# Altium integrated library EgitimPowerSupply.IntLib: 9 symbols
Pins are listed as number, name and electrical type; pins without a type are passive.

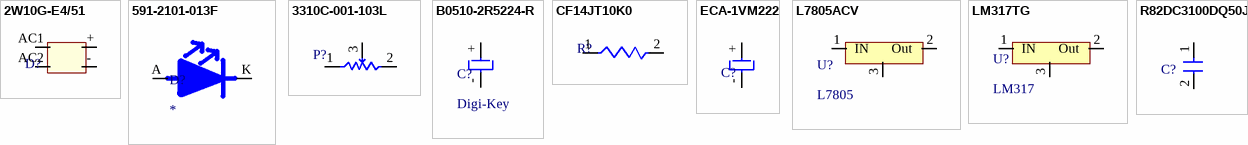
[diagram p0: symbols 2W10G-E4/51 to R82DC3100DQ50J]

## 2W10G-E4/51
designator D?, comment KoptuDiyot  (value not drawn)
RECTIFIER BRIDGE 2A 1000V WOG; Manufacturer: Vishay Semiconductor Diodes Division; Manufacturer Part Number: 2W10G-E4/51; Diode Type: Single Phase; Supplier 1: Digi-Key; RoHS: Request Inventory Verification; Category: Discrete Semiconductor Products; Stock 1: 0; Pricing 1: 1=0.69, 10=0.605, 25=0.536, 100=0.4668, 250=0.40632, 500=0.3458, 1000=0.27664, 2500=0.2507 (USD); Packaging: Bulk; Voltage - Peak Reverse (Max): 1000V; Current - DC Forward (If) (Max): 2A; Mounting Type: Through Hole; Package / Case: 4-Circular, WOG; Supplier Device Package: WOG; ComponentLink1URL: http://www.vishay.com/docs/88528/2w005g.pdf; ComponentLink1Description: http://www.vishay.com/docs/88528/2w005g.pdf
footprint 2W10 (KopruDiyot)
pins: +, -, AC1, AC2

## 591-2101-013F
designator D?
Manufacturer: Dialight; Manufacturer Part Number: 591-2101-013F; Color: Red; Wavelength - Peak: 660nm; Configuration: Single; Current: 20mA; Millicandela Rating: 38mcd; Lens Style/Size: Round with Domed Top, 3mm; Voltage Rating: 1.8V; Supplier 1: Digi-Key; RoHS: RoHS Compliant; Category: Optoelectronics; Stock 1: 2318; Pricing 1: 1=2.21, 10=1.768, 25=1.3504, 100=1.2275, 250=1.0802, 500=0.90836 (USD); Packaging: Digi-Reel®; Viewing Angle: -; Lens Type: -; Mounting Type: Surface Mount, Right Angle; ComponentLink1URL: http://www.dialight.com/Assets/Drawings/2D_Drawings_DrawingDetailedSpec/C17354.pdf; ComponentLink1Description: http://www.dialight.com/Assets/Drawings/2D_Drawings_DrawingDetailedSpec/C17354.pdf
footprint LED5MM (Led5mm)
pins: A, K

## 3310C-001-103L
designator P?, comment Pot  (value not drawn)
POT 10K OHM 9MM SQ RTANG PLAST; Manufacturer: Bourns Inc.; Manufacturer Part Number: 3310C-001-103L; Power (Watts): 0.25W, 1/4W; Tolerance: ±20%; Temperature Coefficient: ±1000ppm/°C; Number of Turns: Single; Rotation: 300°; Adjustment Type: Side Adjustment; Resistive Material: Conductive Plastic; Actuator Length: 0.500" (12.70mm); Actuator Type: Slotted Shaft; Actuator Diameter: 0.125" (3.18mm); Supplier 1: Digi-Key; RoHS: RoHS Compliant; Category: Potentiometers, Variable Resistors; Stock 1: 2537; Pricing 1: 1=2.64, 10=2.32, 25=2.08, 50=2, 100=1.92, 250=1.84, 500=1.52, 1000=1.44, 2500=1.24 (USD); Packaging: Bulk; Resistance (Ohms): 10k; Termination Style: PC Pin; Size - Body: Square - 0.375" x 0.375" Face x 0.375" H (9.53mm x 9.53mm x 9.53mm); Mounting Type: Through Hole; ComponentLink1URL: http://www.bourns.com/data/global/pdfs/3310.pdf; ComponentLink1Description: http://www.bourns.com/data/global/pdfs/3310.pdf
footprint Pot
pins: 1, 2, 3

## B0510-2R5224-R
designator C?, comment Digi-Key
CAP SUPER 0.22F 2.5V RADIAL; Manufacturer: Eaton Bussmann; Manufacturer Part Number: B0510-2R5224-R; Capacitance: 220mF; Tolerance: -20%, +80%; ESR (Equivalent Series Resistance): 2 Ohm; Lifetime @ Temp.: 1000 Hrs @ 70°C; Supplier 1: Digi-Key; RoHS: RoHS Compliant; Category: Capacitors; Stock 1: 17500; Pricing 1: 1=1.67, 10=1.32, 50=1.144, 100=0.99, 500=0.748, 1000=0.66, 5000=0.594, 10000=0.572, 25000=0.55 (USD); Packaging: Bulk; Voltage - Rated: 2.5V; Mounting Type: Through Hole; Package / Case: Radial, Can; Lead Spacing: 0.079" (2.00mm); Size / Dimension: 0.217" Dia (5.50mm); Height - Seated (Max): 0.472" (12.00mm); Operating Temperature: -25°C ~ 70°C; ComponentLink1URL: http://www.cooperindustries.com/content/dam/public/bussmann/Electronics/Resources/product-datasheets/Bus_Elx_DS_4390_B_Series.pdf; ComponentLink1Description: http://www.cooperindustries.com/content/dam/public/bussmann/Electronics/Resources/product-datasheets/Bus_Elx_DS_4390_B_Series.pdf
footprint Cap2 (1uF)
pins: +, -

## CF14JT10K0
designator R?, comment Res  (value not drawn)
RES 10K OHM 1/4W 5% CARBON FILM; Manufacturer: Stackpole Electronics Inc; Manufacturer Part Number: CF14JT10K0; Power (Watts): 0.25W, 1/4W; Temperature Coefficient: 0/ -500ppm/°C; Supplier 1: Digi-Key; RoHS: RoHS Compliant; Category: Resistors; Stock 1: 600000; Pricing 1: 5000=0.00475, 10000=0.00413, 25000=0.00363, 50000=0.00333, 125000=0.00326 (USD); Packaging: Tape & Reel (TR); Resistance (Ohms): 10k; Tolerance: ±5%; Composition: Carbon Film; Features: Flame Retardant Coating, Moisture Resistant; Operating Temperature: -55°C ~ 155°C; Package / Case: Axial; Supplier Device Package: Axial; Size / Dimension: 0.091" Dia x 0.256" L (2.30mm x 6.50mm); Height: -; Number of Terminations: 2; ComponentLink1URL: http://www.seielect.com/catalog/SEI-CF_CFM.pdf; ComponentLink1Description: http://www.seielect.com/catalog/SEI-CF_CFM.pdf
footprint R1 (R 1/4W)
pins: 1, 2

## ECA-1VM222
designator C?, comment 2200uF  (value not drawn)
CAP ALUM 2200UF 35V 20% RADIAL; Manufacturer: Panasonic Electronic Components; Manufacturer Part Number: ECA-1VM222; Capacitance: 2200µF; Lifetime @ Temp.: 2000 Hrs @ 85°C; Ripple Current: 1.25A; Supplier 1: Digi-Key; RoHS: RoHS Compliant; Category: Capacitors; Stock 1: 3193; Pricing 1: 1=1.13, 50=0.7724, 100=0.6685, 500=0.50508, 1000=0.44565, 5000=0.40109, 10000=0.38623, 25000=0.37138 (USD); Packaging: Bulk; Tolerance: ±20%; Voltage Rating: 35V; ESR (Equivalent Series Resistance): -; Operating Temperature: -40°C ~ 85°C; Type: -; Applications: General Purpose; Impedance: -; Lead Spacing: 0.295" (7.50mm); Size / Dimension: 0.630" Dia (16.00mm); Height - Seated (Max): 1.063" (27.00mm); Surface Mount Land Size: -; Mounting Type: Through Hole; Package / Case: Radial, Can; ComponentLink1URL: http://industrial.panasonic.com/www-cgi/jvcr13pz.cgi?E+PZ+3+ABA0012+ECA1VM222+7+WW; ComponentLink1Description: http://industrial.panasonic.com/www-cgi/jvcr13pz.cgi?E+PZ+3+ABA0012+ECA1VM222+7+WW
footprint CAP3 (2200uF)
pins: +, -

## L7805ACV
designator U?, comment L7805
Linear Voltage Regulators 5.0V 1.0A Positive; Manufacturer: STMicroelectronics; Manufacturer Part Number: L7805ACV; Input Voltage MAX: 35 V; Number of Outputs: 1; Output Current: 1.5 A; Output Type: Fixed; Output Voltage: 5 V; PSRR / Ripple Rejection - Typ: 68 dB; Input Voltage MIN: 7 V; Line Regulation: 50 mV; Load Regulation: 100 mV; Supplier 1: Mouser; RoHS: RoHS Compliant; Category: Linear Voltage Regulators; Stock 1: 7592; Pricing 1: 1=0.932, 10=0.626, 100=0.416, 1000=0.321, 2500=0.270, 10000=0.261, 25000=0.247, 50000=0.242 (AUD); Package / Case: TO-220; Packaging: Tube; Series: L7805; Brand: STMicroelectronics; Mounting Style: Through Hole; Maximum Operating Temperature: + 125 C; Minimum Operating Temperature: 0 C; Polarity: Positive; Product Category: Voltage Regulators; Standard Pack Qty: 1000; RoHS - Mouser: Y; Minimum Order Quantity: 1; Reeling: False; ComponentLink1URL: http://www.st.com/web/en/resource/technical/document/datasheet/CD00000444.pdf; ComponentLink1Description: http://www.st.com/web/en/resource/technical/document/datasheet/CD00000444.pdf
footprint TO220 (LM317); pin to pad 2>3 3>2
pins: 1 IN, 2 Out, 3

## LM317TG
designator U?, comment LM317
Linear Voltage Regulators 1.5A ADJ 1.2-37V Positive; Manufacturer: ON Semiconductor; Manufacturer Part Number: LM317TG; Input Voltage MAX: 40 V; Number of Outputs: 1; Output Type: Adjustable; Output Voltage: 1.2 V to 37 V; PSRR / Ripple Rejection - Typ: 80 dB; Input Voltage MIN: 4.2 V; Line Regulation: 0.04 % / V; Load Regulation: 0.5 % / V; Supplier 1: Mouser; RoHS: RoHS Compliant; Category: Linear Voltage Regulators; Stock 1: 8592; Pricing 1: 1=0.783, 10=0.571, 100=0.359, 1000=0.277, 2500=0.236, 10000=0.220, 25000=0.209, 50000=0.204 (AUD); Output Current: 1.5 A; Package / Case: TO-220; Packaging: Tube; Series: LM317; Brand: ON Semiconductor; Mounting Style: Through Hole; Maximum Operating Temperature: + 125 C; Minimum Operating Temperature: 0 C; Polarity: Positive; Product Category: Linear Regulators- General Purpose; Standard Pack Qty: 50; RoHS - Mouser: Y; Minimum Order Quantity: 1; Reeling: False; ComponentLink1URL: http://www.mouser.com/ds/2/308/LM317-D-111941.pdf; ComponentLink1Description: http://www.mouser.com/ds/2/308/LM317-D-111941.pdf
footprint TO220 (LM317); pin to pad 1>3 3>1
pins: 1 IN, 2 Out, 3

## R82DC3100DQ50J
designator C?, comment Cap  (value not drawn)
CAP FILM 0.1UF 63VDC RADIAL; Manufacturer: Kemet; Manufacturer Part Number: R82DC3100DQ50J; Capacitance: 0.1µF; Tolerance: ±5%; Voltage Rating - AC: 40V; Voltage Rating - DC: 63V; Dielectric Material: Polyester, Metallized - Stacked; Supplier 1: Digi-Key; RoHS: RoHS Compliant; Category: Capacitors; Stock 1: 250000; Pricing 1: 3500=0.0582, 7000=0.05384, 10500=0.05092, 17500=0.04831, 24500=0.04656, 87500=0.04365, 175000=0.03856 (USD); Packaging: Tape & Box (TB); ESR (Equivalent Series Resistance): -; Operating Temperature: -55°C ~ 105°C; Mounting Type: Through Hole; Package / Case: Radial; Size / Dimension: 0.283" L x 0.098" W (7.20mm x 2.50mm); Height - Seated (Max): 0.260" (6.60mm); Termination: PC Pins; Lead Spacing: 0.197" (5.00mm); Applications: General Purpose; Features: -; ComponentLink1URL: http://www.kemet.com/docfinder?Partnumber=R82; ComponentLink1Description: http://www.kemet.com/docfinder?Partnumber=R82
footprint Cap1 (100nF)
pins: 1, 2